# Altium schematic symbol library Connector.SchLib: 263 symbols (part 2 of 2)
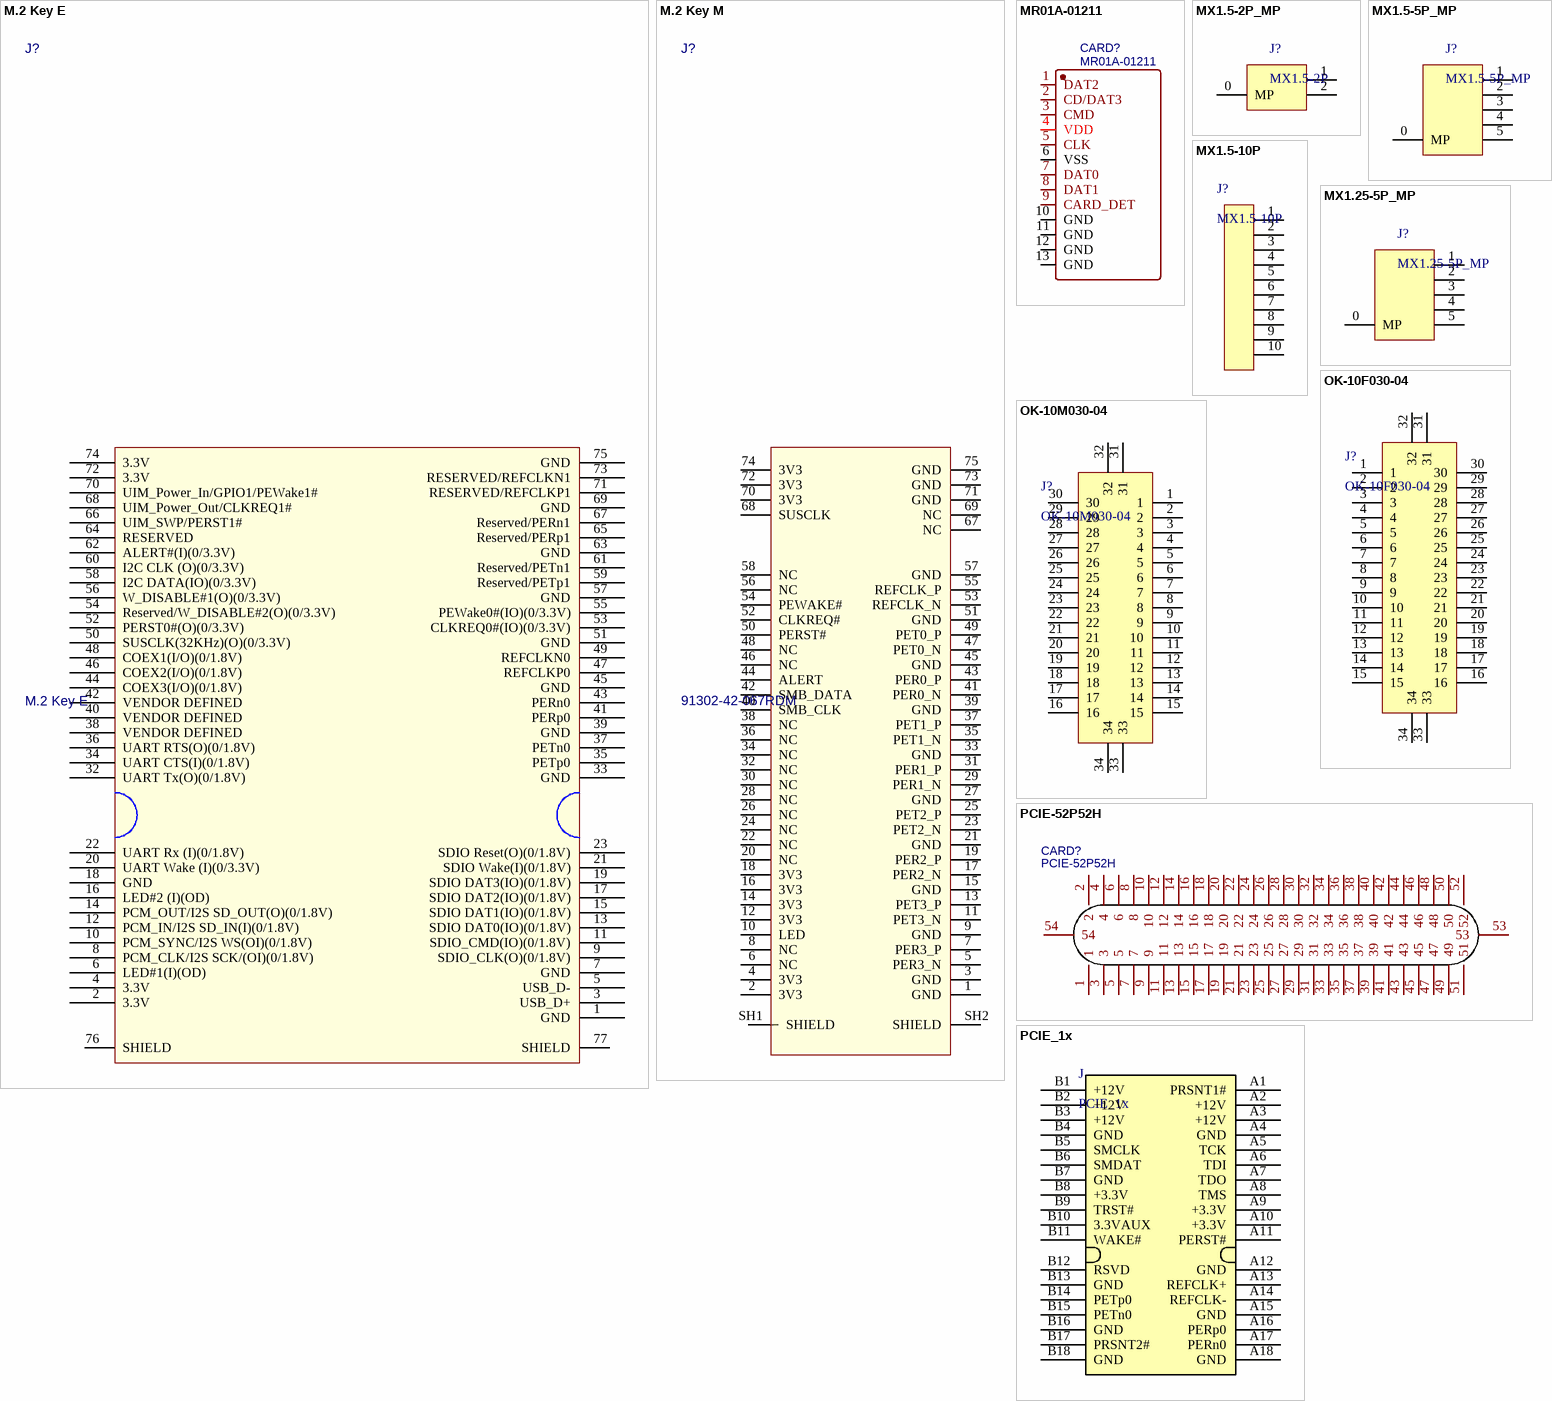
[diagram p14: symbols M.2 Key E to PCIE_1x]

## MR01A-01211
designator CARD?
自弹式 MicroSD卡(TF卡) 卡座; BOM_Manufacturer: ATOM(爱特姆); Contributor: LCSC; BOM_Supplier: LCSC; BOM_Supplier Part: C479742; BOM_Manufacturer Part: MR01A-01211; BOM_JLCPCB Part Class: Extended Part; spicePre: C; spiceSymbolName: MR01A-01211
footprint TF-SMD_MR01A-01211
pins: 1 DAT2, 2 CD/DAT3, 3 CMD, 4 VDD, 5 CLK, 6 VSS, 7 DAT0, 8 DAT1, 9 CARD_DET, 10 GND, 11 GND, 12 GND, 13 GND

## MX1.5-2P_MP
designator J?, comment MX1.5-2P
1.5mm间距，立式表贴线对板接插件
footprint MX1.5mm-2P-MT
pins: 0 MP, 1, 2

## MX1.5-5P_MP
designator J?
1.5mm间距，立式表贴线对板接插件
footprint MX1.5mm-5P-MT
pins: 0 MP, 1, 2, 3, 4, 5

## MX1.5-10P
designator J?
1.5mm间距，立式表贴线对板接插件
footprint Molex_W2B_10P_P1.5mm
pins: 1, 2, 3, 4, 5, 6, 7, 8, 9, 10

## MX1.25-5P_MP
designator J?
1.25mm间距，立式表贴线对板接插件
footprint M1250RS-05P
footprint M1250VS-05P
pins: 0 MP, 1, 2, 3, 4, 5

## OK-10F030-04
designator J?
footprint CONN-SMD_30P-P0.40_OK-10F030-04-A
pins: 1, 2, 3, 4, 5, 6, 7, 8, 9, 10, 11, 12, 13, 14, 15, 16, 17, 18, 19, 20, 21, 22, 23, 24, 25, 26, 27, 28, 29, 30, 31, 32, 33, 34

## OK-10M030-04
designator J?
footprint CONN-SMD_30P-P0.40_OK-10M030-04
pins: 1, 2, 3, 4, 5, 6, 7, 8, 9, 10, 11, 12, 13, 14, 15, 16, 17, 18, 19, 20, 21, 22, 23, 24, 25, 26, 27, 28, 29, 30, 31, 32, 33, 34

## PCIE-52P52H
designator CARD?
BOM_Manufacturer: XUNPU; Contributor: LCSC; BOM_Supplier: LCSC; BOM_Supplier Part: C266899; BOM_Manufacturer Part: PCIE-52P52H; BOM_JLCPCB Part Class: Extended Part; spicePre: C; spiceSymbolName: PCIE-52P52H
footprint CONN-SMD_PCIE-52P52H
pins: 1, 2, 3, 4, 5, 6, 7, 8, 9, 10, 11, 12, 13, 14, 15, 16, 17, 18, 19, 20, 21, 22, 23, 24, 25, 26, 27, 28, 29, 30, 31, 32, 33, 34, 35, 36, 37, 38, 39, 40, 41, 42, 43, 44, 45, 46, 47, 48, 49, 50, 51, 52, 53, 54

## PCIE_1x
designator J  (no BOM)
PCIE 1x PCB封装
pins: A1 PRSNT1#, A2 +12V, A3 +12V, A4 GND, A5 TCK, A6 TDI, A7 TDO, A8 TMS, A9 +3.3V, A10 +3.3V, A11 PERST#, A12 GND, A13 REFCLK+, A14 REFCLK-, A15 GND, A16 PERp0, A17 PERn0, A18 GND, B1 +12V, B2 +12V, B3 +12V, B4 GND, B5 SMCLK, B6 SMDAT, B7 GND, B8 +3.3V, B9 TRST#, B10 3.3VAUX, B11 WAKE#, B12 RSVD, B13 GND, B14 PETp0, B15 PETn0, B16 GND, B17 PRSNT2#, B18 GND

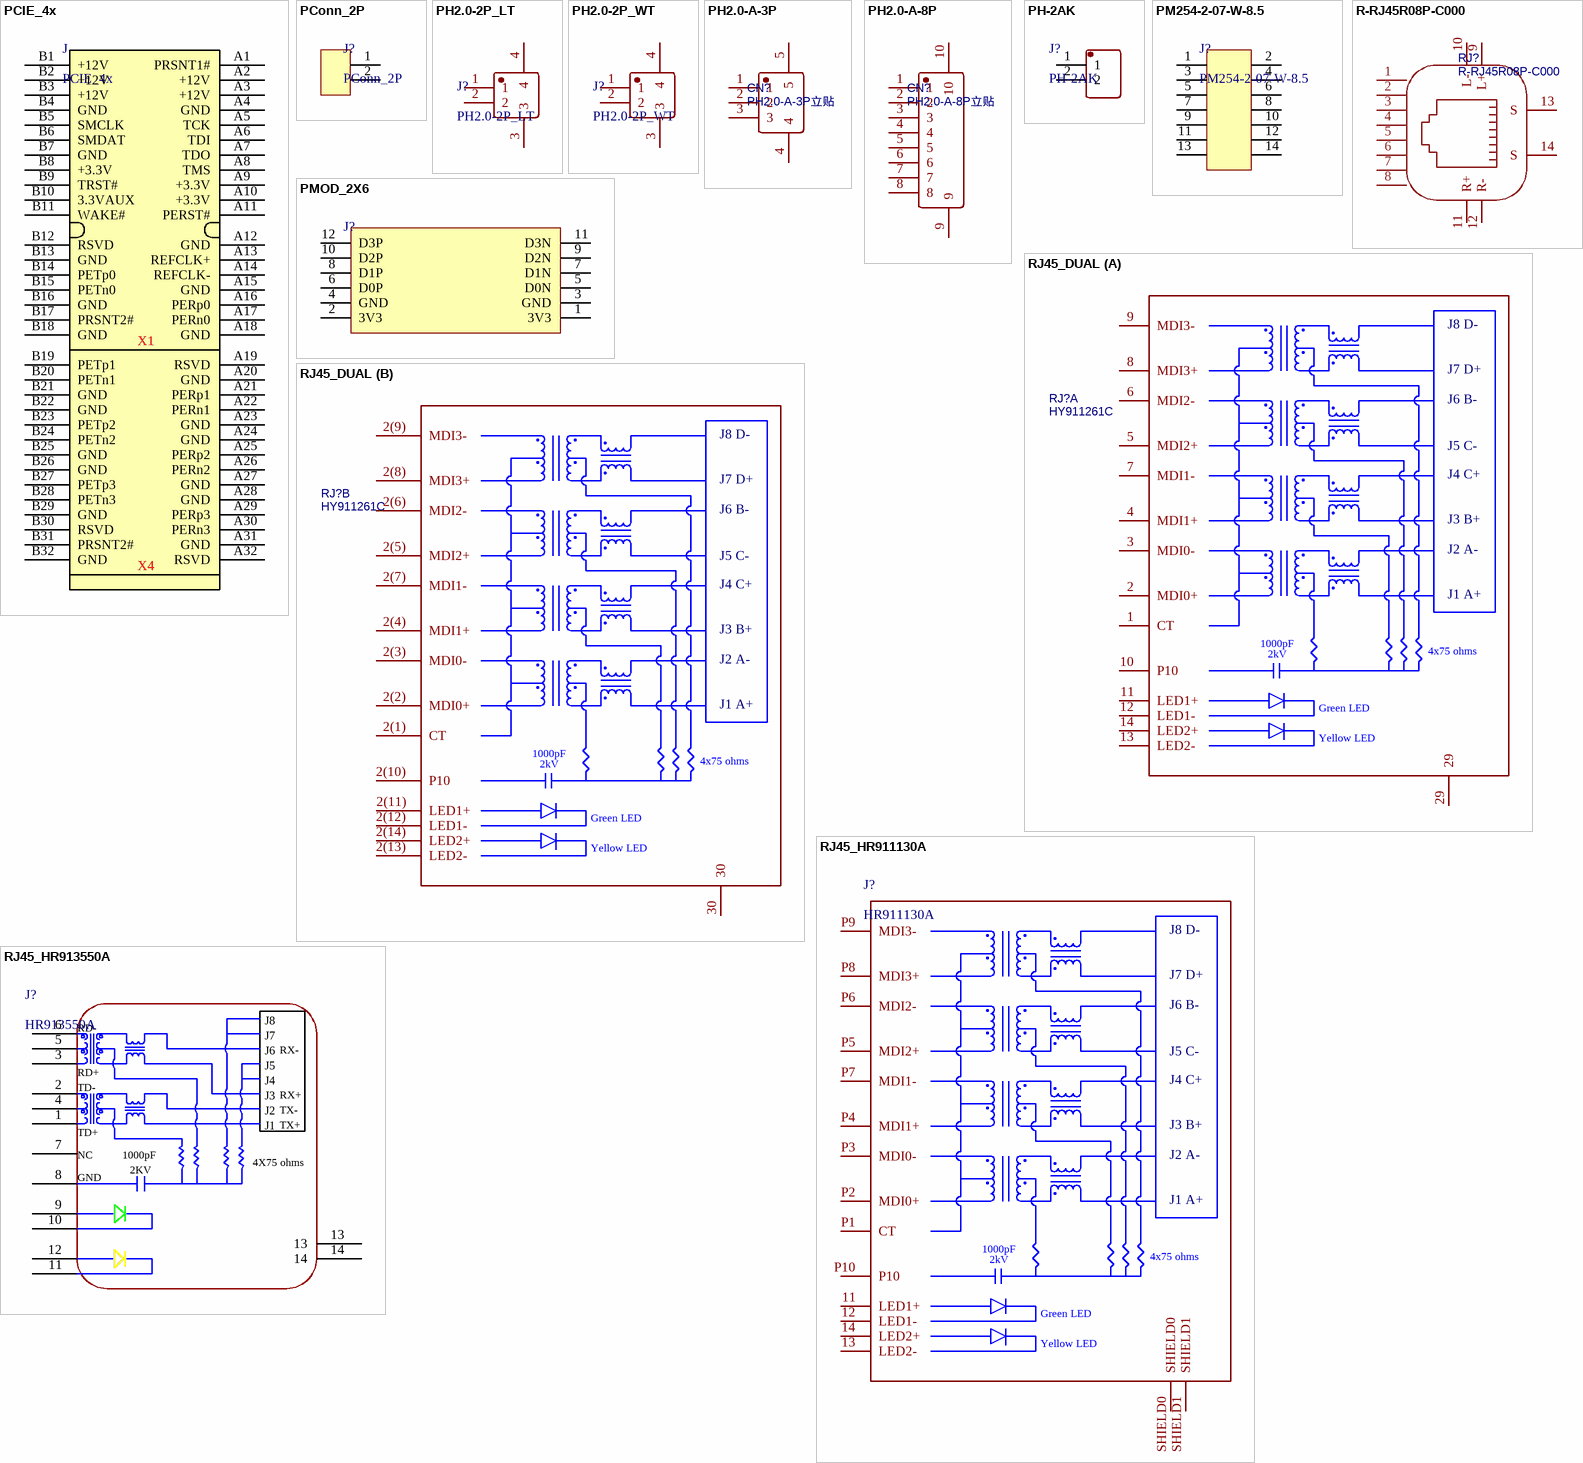
[diagram p10: symbols PCIE_4x to RJ45_HR913550A]

## PCIE_4x
designator J  (no BOM)
PCIE 4x PCB封装
pins: A1 PRSNT1#, A2 +12V, A3 +12V, A4 GND, A5 TCK, A6 TDI, A7 TDO, A8 TMS, A9 +3.3V, A10 +3.3V, A11 PERST#, A12 GND, A13 REFCLK+, A14 REFCLK-, A15 GND, A16 PERp0, A17 PERn0, A18 GND, A19 RSVD, A20 GND, A21 PERp1, A22 PERn1, A23 GND, A24 GND, A25 PERp2, A26 PERn2, A27 GND, A28 GND, A29 PERp3, A30 PERn3, A31 GND, A32 RSVD, B1 +12V, B2 +12V, B3 +12V, B4 GND, B5 SMCLK, B6 SMDAT, B7 GND, B8 +3.3V, B9 TRST#, B10 3.3VAUX, B11 WAKE#, B12 RSVD, B13 GND, B14 PETp0, B15 PETn0, B16 GND, B17 PRSNT2#, B18 GND, B19 PETp1, B20 PETn1, B21 GND, B22 GND, B23 PETp2, B24 PETn2, B25 GND, B26 GND, B27 PETp3, B28 PETn3, B29 GND, B30 RSVD, B31 PRSNT2#, B32 GND
text: X1; X4

## PConn_2P
designator J?
footprint CONN-TH_2P_8mm_H
footprint CONN-TH_2P_5.08mm_H
pins: 1, 2

## PH2.0-2P_LT
designator J?
PH2.0 2P 立贴
footprint PH2.0-2P_LT
pins: 1, 2, 3, 4

## PH2.0-2P_WT
designator J?
PH2.0 2P 卧贴
footprint PH2.0-2P-WT
pins: 1, 2, 3, 4

## PH2.0-A-3P
designator CN?, comment PH2.0-A-3P立贴
BOM_Manufacturer: BOOMELE(博穆精密); BOM_Manufacturer Part: PH-8P立贴; Contributor: LCSC; BOM_Supplier: LCSC; BOM_Supplier Part: C64660; BOM_JLCPCB Part Class: Extended Part; spicePre: C; spiceSymbolName: PH-8P立贴
footprint CONN-SMD_3P-P2.00_HDGC_HDGC2001WV-S-3P
pins: 1, 2, 3, 4, 5

## PH2.0-A-8P
designator CN?, comment PH2.0-A-8P立贴
BOM_Manufacturer: BOOMELE(博穆精密); BOM_Manufacturer Part: PH-8P立贴; Contributor: LCSC; BOM_Supplier: LCSC; BOM_Supplier Part: C64660; BOM_JLCPCB Part Class: Extended Part; spicePre: C; spiceSymbolName: PH-8P立贴
footprint CONN-SMD_P2.00_PH-8P
pins: 1, 2, 3, 4, 5, 6, 7, 8, 9, 10

## PH-2AK
designator J?
2.00mm 线对板连接器
footprint CONN-TH_PH-2A
pins: 1, 2

## PM254-2-07-W-8.5
designator J?
排母 2x7 弯插 2.54mm
footprint HDR-TH_14P-P2.54-H-F-R2-C7-W8.5
pins: 1, 2, 3, 4, 5, 6, 7, 8, 9, 10, 11, 12, 13, 14

## PMOD_2X6
designator J?, comment PM254-2-06-W-8.5  (value not drawn)
footprint HDR-TH_12P-P2.54-H-F-R2-C6-W8.5
pins: 1 3V3, 2 3V3, 3 GND, 4 GND, 5 D0N, 6 D0P, 7 D1N, 8 D1P, 9 D2N, 10 D2P, 11 D3N, 12 D3P

## R-RJ45R08P-C000
designator RJ?
BOM_Manufacturer: Shenzhen Cankemeng; Contributor: LCSC; BOM_Supplier: LCSC; BOM_Supplier Part: C386757; BOM_Manufacturer Part: R-RJ45R08P-C000; BOM_JLCPCB Part Class: Extended Part; spicePre: R; spiceSymbolName: R-RJ45R08P-C000
footprint RJ45-TH_R-RJ45R08P-C000
pins: 1, 2, 3, 4, 5, 6, 7, 8, 9 L+, 10 L-, 11 R+, 12 R-, 13 S, 14 S

## RJ45_DUAL
designator RJ?, comment HY911261C
BOM_Manufacturer: HANRUN; BOM_Supplier: LCSC; BOM_Manufacturer Part: HY911261C; BOM_Supplier Part: C55686; BOM_JLCPCB Part Class: Extended Part; spicePre: R; spiceSymbolName: HY911261C
footprint RJ45-TH_28P-P2.54-S2.54_L33.2-W21.4_HY911261C
part A pins: 1 CT, 2 MDI0+, 3 MDI0-, 4 MDI1+, 5 MDI2+, 6 MDI2-, 7 MDI1-, 8 MDI3+, 9 MDI3-, 10 P10, 11 LED1+, 12 LED1-, 13 LED2-, 14 LED2+, 29
part B pins: 2(1) CT, 2(2) MDI0+, 2(3) MDI0-, 2(4) MDI1+, 2(5) MDI2+, 2(6) MDI2-, 2(7) MDI1-, 2(8) MDI3+, 2(9) MDI3-, 2(10) P10, 2(11) LED1+, 2(12) LED1-, 2(13) LED2-, 2(14) LED2+, 30
part A text: J8 D-; J7 D+; J6 B-; J5 C-; J4 C+; J3 B+; J2 A-; J1 A+; 1000pF; 4x75 ohms; 2kV; Green LED; Yellow LED
part B text: J8 D-; J7 D+; J6 B-; J5 C-; J4 C+; J3 B+; J2 A-; J1 A+; 1000pF; 4x75 ohms; 2kV; Green LED; Yellow LED

## RJ45_HR911130A
designator J?, comment HR911130A
footprint RJ45-TH_HR911130A
pins: 11 LED1+, 12 LED1-, 13 LED2-, 14 LED2+, P1 CT, P2 MDI0+, P3 MDI0-, P4 MDI1+, P5 MDI2+, P6 MDI2-, P7 MDI1-, P8 MDI3+, P9 MDI3-, P10, SHIELD0, SHIELD1
text: J8 D-; J7 D+; J6 B-; J5 C-; J4 C+; J3 B+; J2 A-; J1 A+; 1000pF; 4x75 ohms; 2kV; Green LED; Yellow LED

## RJ45_HR913550A
designator J?, comment HR913550A
footprint RJ45-TH_HR913550A
pins: 1, 2, 3, 4, 5, 6, 7 NC, 8 GND, 9, 10, 11, 12, 13, 14
text: J8; RD-; J7; J6; RX-; J5; RD+; J4; TD-; J3; RX+; J2; TX-; J1; TX+; TD+; 1000pF; 4X75 ohms; 2KV

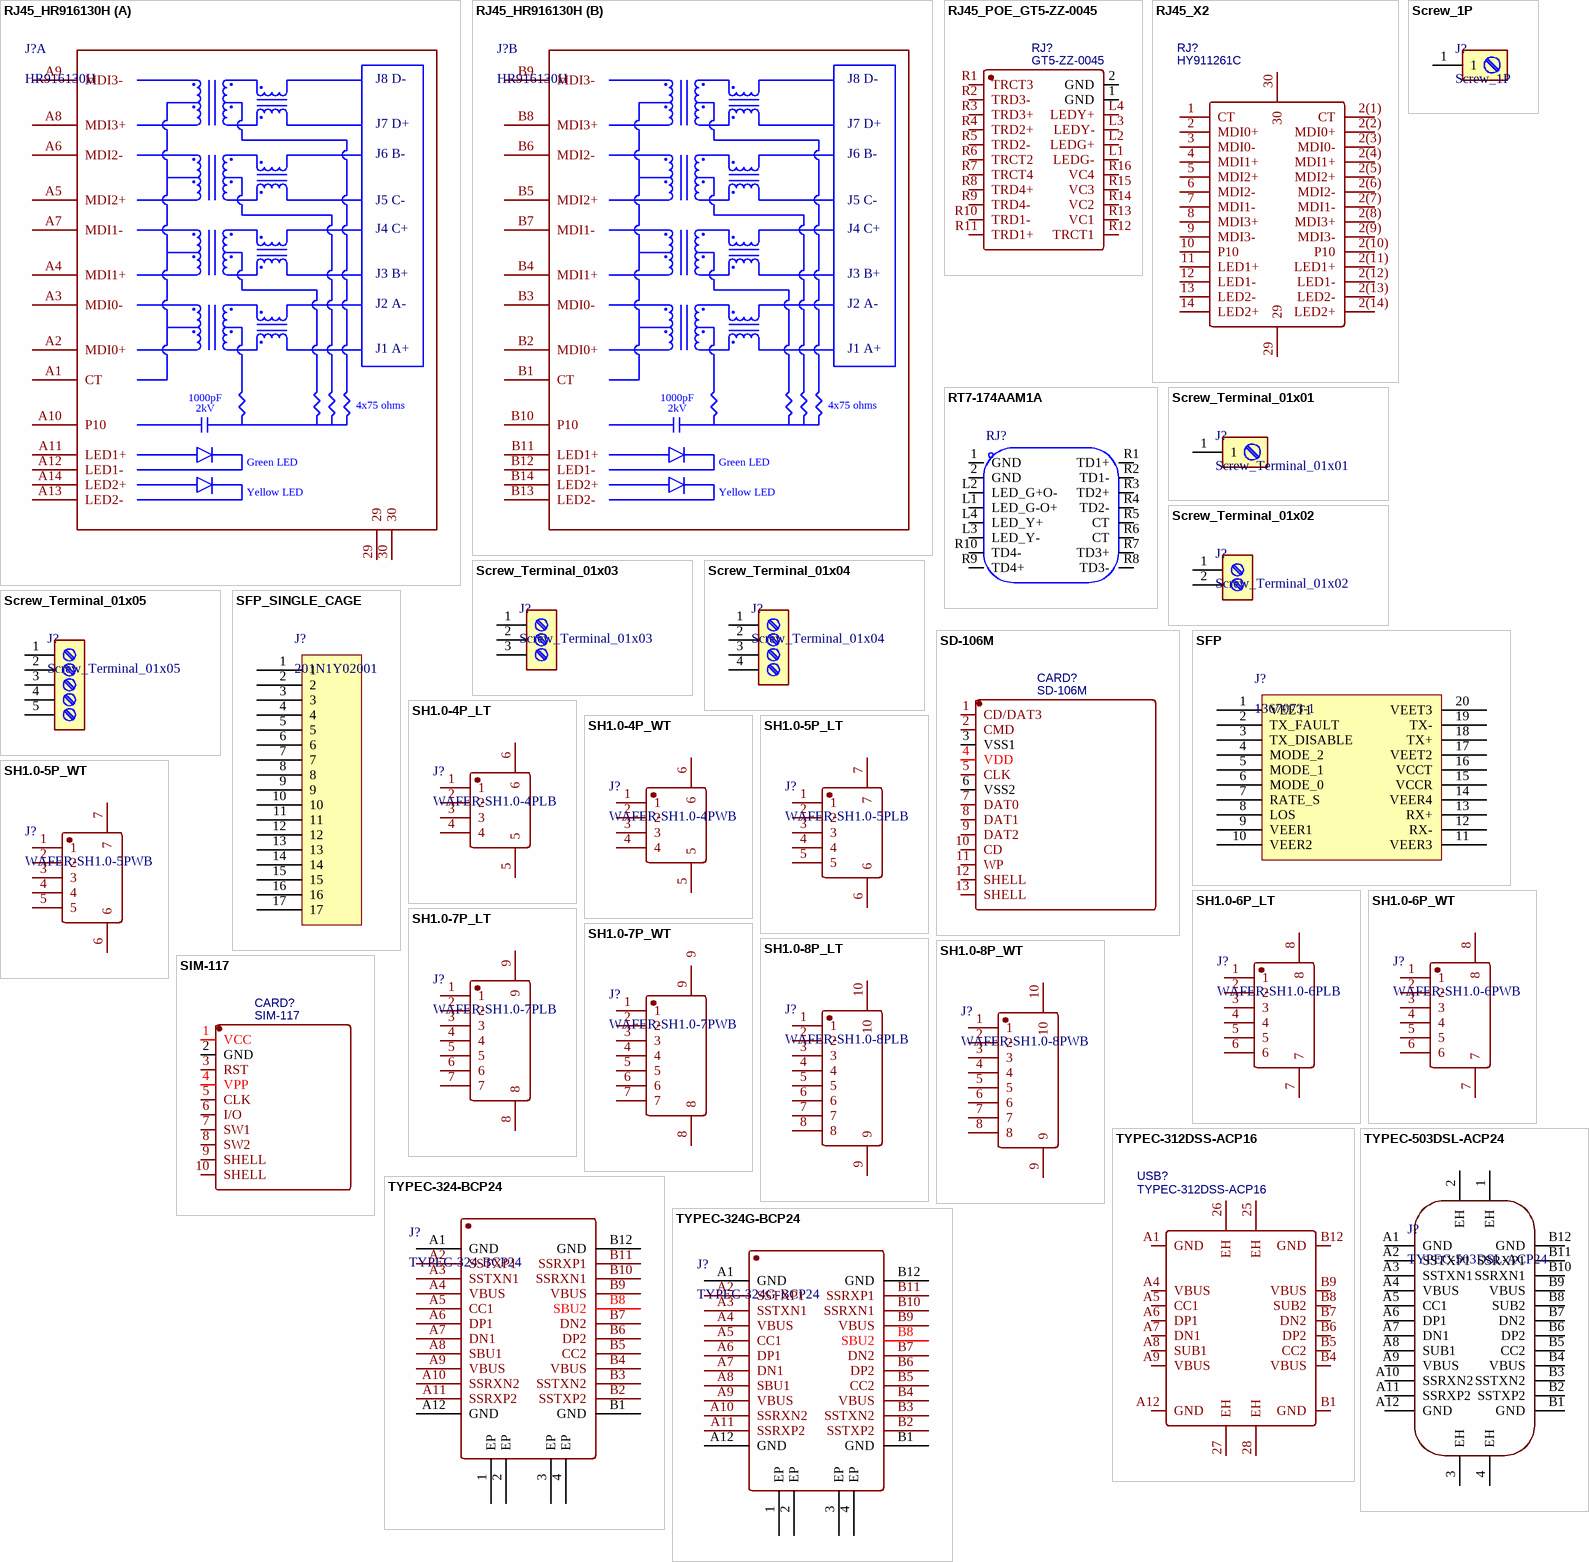
[diagram p11: symbols RJ45_HR916130H to TYPEC-503DSL-ACP24]

## RJ45_HR916130H
designator J?, comment HR916130H
footprint RJ45-TH_HR916130H
part A pins: 29, 30, A1 CT, A2 MDI0+, A3 MDI0-, A4 MDI1+, A5 MDI2+, A6 MDI2-, A7 MDI1-, A8 MDI3+, A9 MDI3-, A10 P10, A11 LED1+, A12 LED1-, A13 LED2-, A14 LED2+
part B pins: B1 CT, B2 MDI0+, B3 MDI0-, B4 MDI1+, B5 MDI2+, B6 MDI2-, B7 MDI1-, B8 MDI3+, B9 MDI3-, B10 P10, B11 LED1+, B12 LED1-, B13 LED2-, B14 LED2+
part A text: J8 D-; J7 D+; J6 B-; J5 C-; J4 C+; J3 B+; J2 A-; J1 A+; 1000pF; 4x75 ohms; 2kV; Green LED; Yellow LED
part B text: J8 D-; J7 D+; J6 B-; J5 C-; J4 C+; J3 B+; J2 A-; J1 A+; 1000pF; 4x75 ohms; 2kV; Green LED; Yellow LED

## RJ45_POE_GT5-ZZ-0045
designator RJ?, comment GT5-ZZ-0045
10G 加POE60W 左黄右绿 开口向上; BOM_Manufacturer: UDE Corp; Contributor: LCSC; BOM_Supplier: LCSC; BOM_Supplier Part: C711509; BOM_Manufacturer Part: GT5-ZZ-0045; BOM_JLCPCB Part Class: Extended Part; spicePre: R; spiceSymbolName: GT5-ZZ-0045
footprint RJ45-TH_GT5-ZZ-0045
pins: 1 GND, 2 GND, L1 LEDG-, L2 LEDG+, L3 LEDY-, L4 LEDY+, R1 TRCT3, R2 TRD3-, R3 TRD3+, R4 TRD2+, R5 TRD2-, R6 TRCT2, R7 TRCT4, R8 TRD4+, R9 TRD4-, R10 TRD1-, R11 TRD1+, R12 TRCT1, R13 VC1, R14 VC2, R15 VC3, R16 VC4

## RJ45_X2
designator RJ?, comment HY911261C
BOM_Manufacturer: HANRUN; BOM_Supplier: LCSC; BOM_Manufacturer Part: HY911261C; BOM_Supplier Part: C55686; BOM_JLCPCB Part Class: Extended Part; spicePre: R; spiceSymbolName: HY911261C
footprint RJ45-TH_28P-P2.54-S2.54_L33.2-W21.4_HY911261C
pins: 1 CT, 2 MDI0+, 2(1) CT, 2(2) MDI0+, 2(3) MDI0-, 2(4) MDI1+, 2(5) MDI2+, 2(6) MDI2-, 2(7) MDI1-, 2(8) MDI3+, 2(9) MDI3-, 2(10) P10, 2(11) LED1+, 2(12) LED1-, 2(13) LED2-, 2(14) LED2+, 3 MDI0-, 4 MDI1+, 5 MDI2+, 6 MDI2-, 7 MDI1-, 8 MDI3+, 9 MDI3-, 10 P10, 11 LED1+, 12 LED1-, 13 LED2-, 14 LED2+, 29, 30

## RT7-174AAM1A
designator RJ?  (value not drawn)
RJ45 千兆带灯 左黄右绿橙 开口向上; Manufacturer: UDE(涌德电子); Add into BOM: yes; Connector Type: RJ插座; Number of Ports: 1; Mounting Sytle: 弯插; Shielding: 有; Symbol: RT7-174AAM1A; Device: RT7-174AAM1A; LCSC Part Name: 千兆带灯 左黄右绿橙 开口向上; Supplier Part: C711505; Manufacturer Part: RT7-174AAM1A; Supplier Footprint: 插件; JLCPCB Part Class: Extended Part; Datasheet: https://atta.szlcsc.com/upload/public/pdf/source/20200728/C711505_D0535B5F0E26438CCA7C395B6CC1A3F6.pdf; Supplier: LCSC; Convert to PCB: yes; USOC Codes: RJ45; Ratings: -; LED: 有; Operating Temperature Range: 0~+70
footprint RJ45-TH_RT7-174AAM1A
3D model RJ45-TH_RT7-174AAM1A
pins: 1 GND, 2 GND, L1 LED_G-O+, L2 LED_G+O-, L3 LED_Y-, L4 LED_Y+, R1 TD1+, R2 TD1-, R3 TD2+, R4 TD2-, R5 CT, R6 CT, R7 TD3+, R8 TD3-, R9 TD4+, R10 TD4-

## Screw_1P
designator J?
footprint CONN-TH_1P_Screw5x10mm
pins: 1

## Screw_Terminal_01x01
designator J?
Generic screw terminal, single row
pins: 1

## Screw_Terminal_01x02
designator J?
Generic screw terminal, single row
footprint MKDSN_1x02_P5.08mm
footprint MKDS5_1x02_P9.52mm
pins: 1, 2

## Screw_Terminal_01x03
designator J?
Generic screw terminal, single row
footprint MKDSN_1x03_P5.08mm
pins: 1, 2, 3

## Screw_Terminal_01x04
designator J?
Generic screw terminal, single row
footprint MKDSN_1x04_P5.08mm
pins: 1, 2, 3, 4

## Screw_Terminal_01x05
designator J?
Generic screw terminal, single row
pins: 1, 2, 3, 4, 5

## SD-106M
designator CARD?
BOM_Manufacturer: XUNPU; Contributor: LCSC; BOM_Supplier: LCSC; BOM_Supplier Part: C266603; BOM_Manufacturer Part: SD-106M; BOM_JLCPCB Part Class: Extended Part; spicePre: C; spiceSymbolName: SD-106M
footprint SD-SMD_SD-106M
pins: 1 CD/DAT3, 2 CMD, 3 VSS1, 4 VDD, 5 CLK, 6 VSS2, 7 DAT0, 8 DAT1, 9 DAT2, 10 CD, 11 WP, 12 SHELL, 13 SHELL

## SFP
designator J?, comment 1367073-1
footprint SFP-SMD_1367073-1
pins: 1 VEET1, 2 TX_FAULT, 3 TX_DISABLE, 4 MODE_2, 5 MODE_1, 6 MODE_0, 7 RATE_S, 8 LOS, 9 VEER1, 10 VEER2, 11 VEER3, 12 RX-, 13 RX+, 14 VEER4, 15 VCCR, 16 VCCT, 17 VEET2, 18 TX+, 19 TX-, 20 VEET3

## SFP_SINGLE_CAGE
designator J?, comment 201N1Y02001
SFP 单通道外壳
footprint SFP-TH_201N1Y02001
pins: 1, 2, 3, 4, 5, 6, 7, 8, 9, 10, 11, 12, 13, 14, 15, 16, 17

## SH1.0-4P_LT
designator J?, comment WAFER-SH1.0-4PLB
SH1.0 立贴 4P
footprint SH1.0_4P_LT
pins: 1, 2, 3, 4, 5, 6

## SH1.0-4P_WT
designator J?, comment WAFER-SH1.0-4PWB
SH1.0 卧贴 4P
footprint SH1.0_4P_WT
pins: 1, 2, 3, 4, 5, 6

## SH1.0-5P_LT
designator J?, comment WAFER-SH1.0-5PLB
SH1.0 立贴 5P
footprint SH1.0_5P_LT
pins: 1, 2, 3, 4, 5, 6, 7

## SH1.0-5P_WT
designator J?, comment WAFER-SH1.0-5PWB
SH1.0 卧贴 5P
footprint SH1.0_5P_WT
pins: 1, 2, 3, 4, 5, 6, 7

## SH1.0-6P_LT
designator J?, comment WAFER-SH1.0-6PLB
SH1.0 立贴 6P
footprint SH1.0_6P_LT
pins: 1, 2, 3, 4, 5, 6, 7, 8

## SH1.0-6P_WT
designator J?, comment WAFER-SH1.0-6PWB
SH1.0 卧贴 6P
footprint SH1.0_6P_WT
pins: 1, 2, 3, 4, 5, 6, 7, 8

## SH1.0-7P_LT
designator J?, comment WAFER-SH1.0-7PLB
SH1.0 立贴 7P
footprint SH1.0_7P_LT
pins: 1, 2, 3, 4, 5, 6, 7, 8, 9

## SH1.0-7P_WT
designator J?, comment WAFER-SH1.0-7PWB
SH1.0 卧贴 7P
footprint SH1.0_7P_WT
pins: 1, 2, 3, 4, 5, 6, 7, 8, 9

## SH1.0-8P_LT
designator J?, comment WAFER-SH1.0-8PLB
SH1.0 立贴 8P
footprint SH1.0_8P_LT
pins: 1, 2, 3, 4, 5, 6, 7, 8, 9, 10

## SH1.0-8P_WT
designator J?, comment WAFER-SH1.0-8PWB
SH1.0 卧贴 8P
footprint SH1.0_8P_WT
pins: 1, 2, 3, 4, 5, 6, 7, 8, 9, 10

## SIM-117
designator CARD?
BOM_Manufacturer: XUNPU; Contributor: LCSC; BOM_Supplier: LCSC; BOM_Supplier Part: C266630; BOM_Manufacturer Part: SIM-117; BOM_JLCPCB Part Class: Extended Part; spicePre: C; spiceSymbolName: SIM-117
footprint SIM-SMD_SIM-117
pins: 1 VCC, 2 GND, 3 RST, 4 VPP, 5 CLK, 6 I/O, 7 SW1, 8 SW2, 9 SHELL, 10 SHELL

## TYPEC-312DSS-ACP16
designator USB?
BOM_Manufacturer: XUNPU(讯普); Contributor: LCSC; BOM_Supplier: LCSC; BOM_Supplier Part: C2909601; BOM_Manufacturer Part: TYPEC-312DSS-ACP16; spicePre: U; spiceSymbolName: TYPEC-312DSS-ACP16
footprint USB-C-SMD_XUNPU_TYPEC-312DSS-ACP16
pins: 25 EH, 26 EH, 27 EH, 28 EH, A1 GND, A4 VBUS, A5 CC1, A6 DP1, A7 DN1, A8 SUB1, A9 VBUS, A12 GND, B1 GND, B4 VBUS, B5 CC2, B6 DP2, B7 DN2, B8 SUB2, B9 VBUS, B12 GND

## TYPEC-324-BCP24
designator J?
USB3.1 Type-C
footprint USB-C-SMD_TYPEC-324-BCP24
pins: 1 EP, 2 EP, 3 EP, 4 EP, A1 GND, A2 SSTXP1, A3 SSTXN1, A4 VBUS, A5 CC1, A6 DP1, A7 DN1, A8 SBU1, A9 VBUS, A10 SSRXN2, A11 SSRXP2, A12 GND, B1 GND, B2 SSTXP2, B3 SSTXN2, B4 VBUS, B5 CC2, B6 DP2, B7 DN2, B8 SBU2, B9 VBUS, B10 SSRXN1, B11 SSRXP1, B12 GND

## TYPEC-324G-BCP24
designator J?
USB3.1 Type-C
footprint USB-C-SMD_TYPEC-324G-BCP24
pins: 1 EP, 2 EP, 3 EP, 4 EP, A1 GND, A2 SSTXP1, A3 SSTXN1, A4 VBUS, A5 CC1, A6 DP1, A7 DN1, A8 SBU1, A9 VBUS, A10 SSRXN2, A11 SSRXP2, A12 GND, B1 GND, B2 SSTXP2, B3 SSTXN2, B4 VBUS, B5 CC2, B6 DP2, B7 DN2, B8 SBU2, B9 VBUS, B10 SSRXN1, B11 SSRXP1, B12 GND

## TYPEC-503DSL-ACP24
designator J?
USB3.1 Type-C
footprint USB-C-SMD_TYPEC-503DSL-ACP24
pins: 1 EH, 2 EH, 3 EH, 4 EH, A1 GND, A2 SSTXP1, A3 SSTXN1, A4 VBUS, A5 CC1, A6 DP1, A7 DN1, A8 SUB1, A9 VBUS, A10 SSRXN2, A11 SSRXP2, A12 GND, B1 GND, B2 SSTXP2, B3 SSTXN2, B4 VBUS, B5 CC2, B6 DP2, B7 DN2, B8 SUB2, B9 VBUS, B10 SSRXN1, B11 SSRXP1, B12 GND

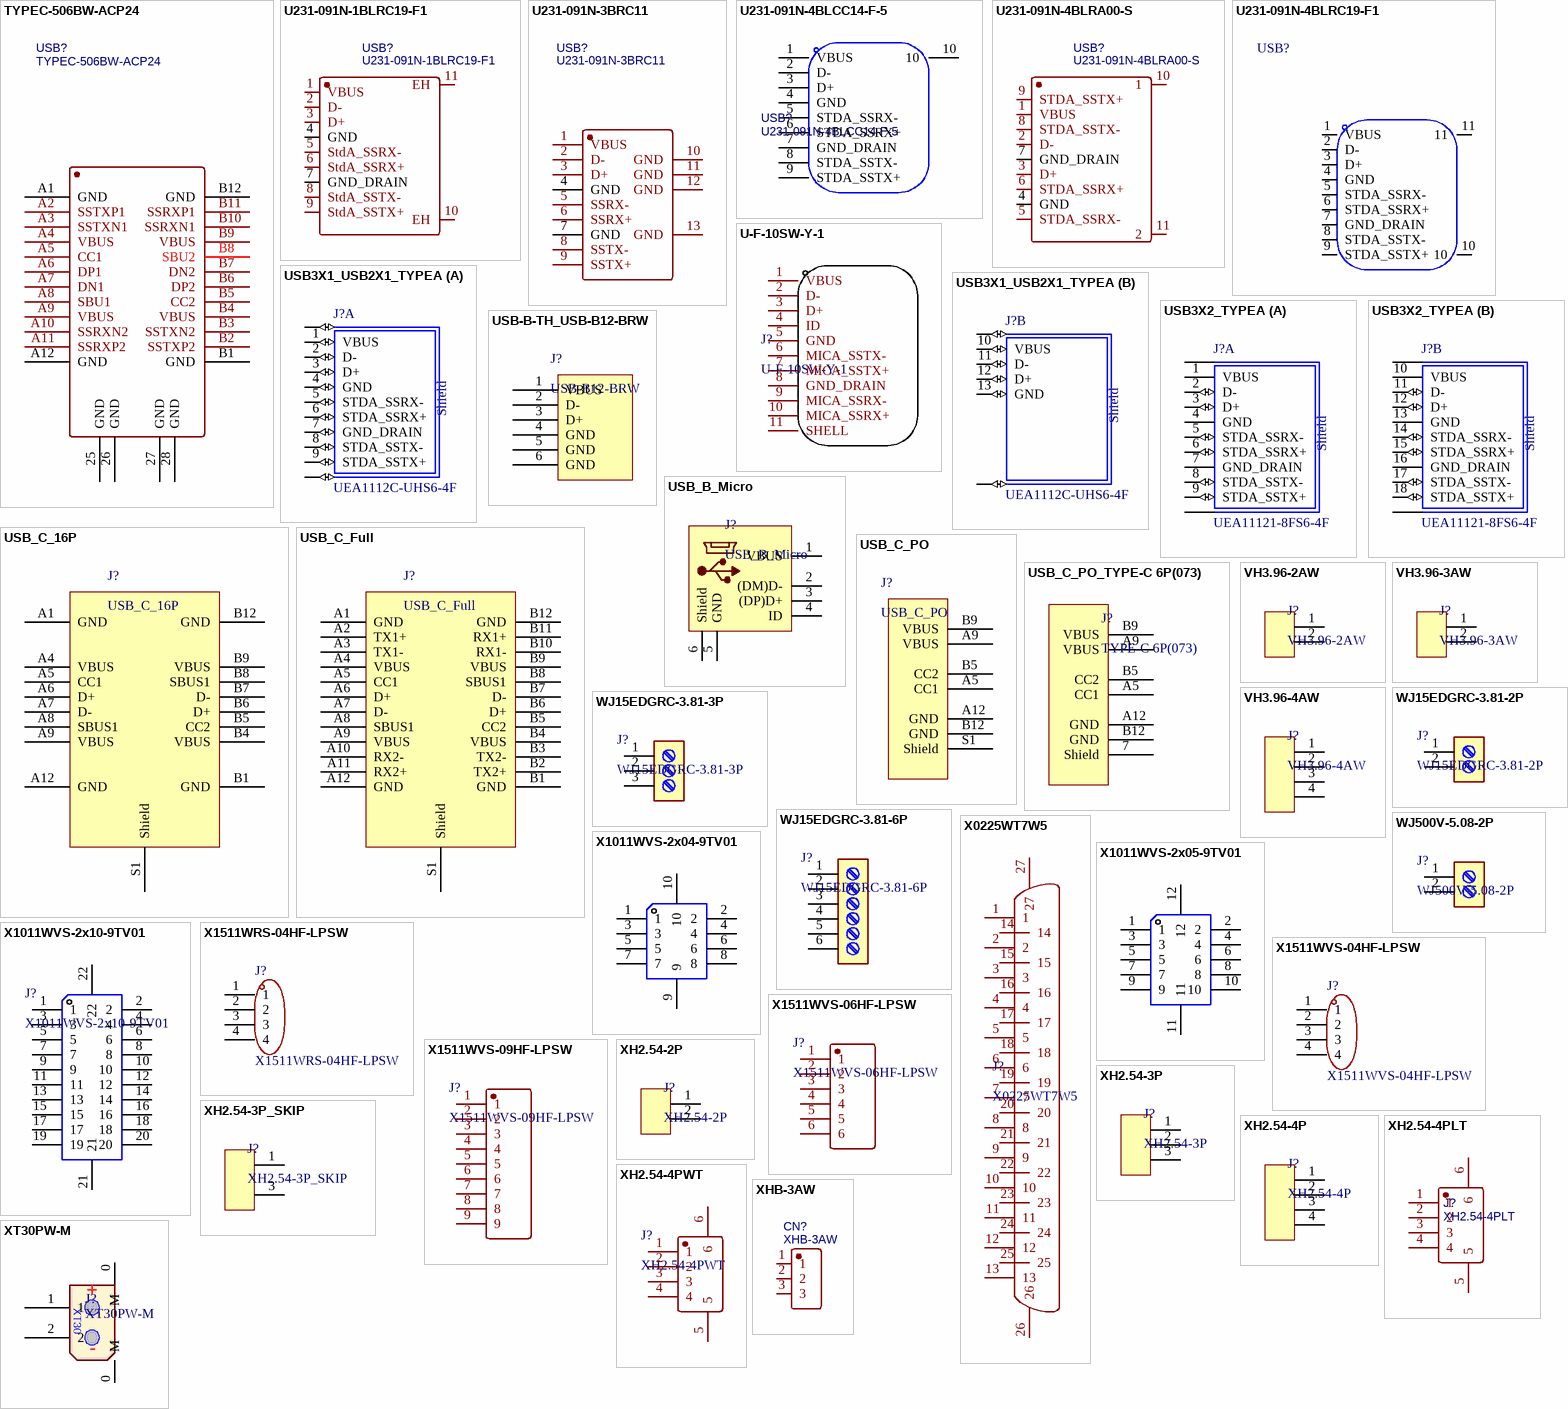
[diagram p12: symbols TYPEC-506BW-ACP24 to XT30PW-M]

## TYPEC-506BW-ACP24
designator USB?
USB3.1 Type-C; BOM_Manufacturer: XUNPU(讯普); Contributor: LCSC; BOM_Supplier: LCSC; BOM_Supplier Part: C2895019; BOM_Manufacturer Part: TYPEC-506BW-ACP24; BOM_JLCPCB Part Class: Extended Part; spicePre: U; spiceSymbolName: TYPEC-506BW-ACP24
footprint USB-C-SMD_TYPEC-506BW-ACP24
pins: 25 GND, 26 GND, 27 GND, 28 GND, A1 GND, A2 SSTXP1, A3 SSTXN1, A4 VBUS, A5 CC1, A6 DP1, A7 DN1, A8 SBU1, A9 VBUS, A10 SSRXN2, A11 SSRXP2, A12 GND, B1 GND, B2 SSTXP2, B3 SSTXN2, B4 VBUS, B5 CC2, B6 DP2, B7 DN2, B8 SBU2, B9 VBUS, B10 SSRXN1, B11 SSRXP1, B12 GND

## U231-091N-1BLRC19-F1
designator USB?
BOM_Manufacturer: XKB Connectivity(中国星坤); Contributor: LCSC; BOM_Supplier: LCSC; BOM_Supplier Part: C2880601; BOM_Manufacturer Part: U231-091N-1BLRC19-F1; BOM_JLCPCB Part Class: Extended Part; spicePre: U; spiceSymbolName: U231-091N-1BLRC19-F1
footprint USB-3.0-TH_XKB_U231-091N-1BLRC19-F1
pins: 1 VBUS, 2 D-, 3 D+, 4 GND, 5 StdA_SSRX-, 6 StdA_SSRX+, 7 GND_DRAIN, 8 StdA_SSTX-, 9 StdA_SSTX+, 10 EH, 11 EH

## U231-091N-3BRC11
designator USB?
BOM_Manufacturer: XKB Connectivity; BOM_Manufacturer Part: U231-091N-3BRC10-5; Contributor: LCSC; BOM_Supplier: LCSC; BOM_Supplier Part: C692545; spicePre: U; spiceSymbolName: U231-091N-3BRC10-5
footprint USB-C-TH_U231-091N-3BRC11
pins: 1 VBUS, 2 D-, 3 D+, 4 GND, 5 SSRX-, 6 SSRX+, 7 GND, 8 SSTX-, 9 SSTX+, 10 GND, 11 GND, 12 GND, 13 GND

## U231-091N-4BLCC14-F-5
designator USB?
USB3.0 侧插; BOM_Manufacturer: HOOYA(香港皓宇); BOM_Manufacturer Part: USB-303L-L-SU; Contributor: lcsc; BOM_Supplier: LCSC; BOM_Supplier Part: C2939532; link: https://atta.szlcsc.com/upload/public/pdf/source/20220401/4DFECE0CFC6CE01AD941A9A056F4BDE4.pdf; spicePre: U; spiceSymbolName: USB-303L-L-SU
footprint USB3.0-A-TH_U231-091N-4BLCC14-S-5
pins: 1 VBUS, 2 D-, 3 D+, 4 GND, 5 STDA_SSRX-, 6 STDA_SSRX+, 7 GND_DRAIN, 8 STDA_SSTX-, 9 STDA_SSTX+, 10

## U231-091N-4BLRA00-S
designator USB?
BOM_Manufacturer: XKB Connectivity(中国星坤); Contributor: LCSC; BOM_Supplier: LCSC; BOM_Supplier Part: C2880618; BOM_Manufacturer Part: U231-091N-4BLRA00-S; BOM_JLCPCB Part Class: Extended Part; spicePre: U; spiceSymbolName: U231-091N-4BLRA00-S
footprint USB-SMD_U231-091N-4BLRA00-S
pins: 1 VBUS, 2 D-, 3 D+, 4 GND, 5 STDA_SSRX-, 6 STDA_SSRX+, 7 GND_DRAIN, 8 STDA_SSTX-, 9 STDA_SSTX+, 10 1, 11 2

## U231-091N-4BLRC19-F1
designator USB?
Manufacturer: XKB Connectivity(中国星坤); Symbol: U231-091N-4BLRC19-F1; Add into BOM: yes; Connector Type: Type-A; Gender: 母座; Number of Contacts: 9; Number of Ports: 1; Current Rating - Power (Max): 1A; Device: U231-091N-4BLRC19-F1; LCSC Part Name: Type-A 母座; Supplier Part: C397360; Manufacturer Part: U231-091N-4BLRC19-F1; Supplier Footprint: 插件; JLCPCB Part Class: Extended Part; Datasheet: https://atta.szlcsc.com/upload/public/pdf/source/20190612/C397360_7F8AEDED25EA9FAD48446CE4CD877242.pdf; Supplier: LCSC; Convert to PCB: yes; Standard: USB 3.0
footprint USB-A-TH_U231-091N-4BLRC19-F1
3D model USB-A-TH_U231-091N-4BLRC19-F1
pins: 1 VBUS, 2 D-, 3 D+, 4 GND, 5 STDA_SSRX-, 6 STDA_SSRX+, 7 GND_DRAIN, 8 STDA_SSTX-, 9 STDA_SSTX+, 10, 11

## U-F-10SW-Y-1
designator J?
Micro USB 3.0
footprint USB-3.0-SMD_U-F-10SW-Y-1
pins: 1 VBUS, 2 D-, 3 D+, 4 ID, 5 GND, 6 MICA_SSTX-, 7 MICA_SSTX+, 8 GND_DRAIN, 9 MICA_SSRX-, 10 MICA_SSRX+, 11 SHELL

## USB3X1_USB2X1_TYPEA
designator J?, comment UEA1112C-UHS6-4F
footprint USB3_2LAYERS_1U3+1U2_ZHICHA
part A pins: 1 VBUS (io), 2 D- (io), 3 D+ (io), 4 GND (io), 5 STDA_SSRX- (io), 6 STDA_SSRX+ (io), 7 GND_DRAIN (io), 8 STDA_SSTX- (io), 9 STDA_SSTX+ (io), S1 SHIELD (io), S2 SHIELD (io)
part B pins: 10 VBUS (io), 11 D- (io), 12 D+ (io), 13 GND (io), S3 SHIELD (io), S4 SHIELD (io)
part A text: Shield
part B text: Shield

## USB3X2_TYPEA
designator J?, comment UEA11121-8FS6-4F
footprint USB3x2_UEA11121-8FS6-4F
part A pins: 1 VBUS, 2 D- (io), 3 D+ (io), 4 GND, 5 STDA_SSRX- (io), 6 STDA_SSRX+ (io), 7 GND_DRAIN, 8 STDA_SSTX- (io), 9 STDA_SSTX+ (io), S3 SHIELD, S4 SHIELD
part B pins: 10 VBUS, 11 D- (io), 12 D+ (io), 13 GND, 14 STDA_SSRX- (io), 15 STDA_SSRX+ (io), 16 GND_DRAIN, 17 STDA_SSTX- (io), 18 STDA_SSTX+ (io), S1 SHIELD, S2 SHIELD
part A text: Shield
part B text: Shield

## USB-B-TH_USB-B12-BRW
designator J?, comment USB-B12-BRW
USB Type-B  立插
footprint USB-B-TH_USB-B12-BRW
pins: 1 VBUS, 2 D-, 3 D+, 4 GND, 5 GND, 6 GND

## USB_B_Micro
designator J?
USB Micro Type B connector
footprint USB_Micro-B_SMT_With_Column
footprint USB_Micro-B_Vertical_SHOUHAN_180ZB
footprint MICRO-USB-SMD_MICROXNJ
pins: 1 VBUS, 2 (DM)D-, 3 (DP)D+, 4 ID, 5 GND, 6 Shield

## USB_C_16P
designator J?
USB_C_16P USB 2.0
footprint USB_C_Receptacle_XUNPU_TYPEC-304-BCP16
footprint USB_C_XUNPU_TYPEC-303-ACP16
pins: A1 GND, A4 VBUS, A5 CC1, A6 D+, A7 D-, A8 SBUS1, A9 VBUS, A12 GND, B1 GND, B4 VBUS, B5 CC2, B6 D+, B7 D-, B8 SBUS1, B9 VBUS, B12 GND, S1 Shield

## USB_C_Full
designator J?
USB_C_Full 24Pin
pins: A1 GND, A2 TX1+, A3 TX1-, A4 VBUS, A5 CC1, A6 D+, A7 D-, A8 SBUS1, A9 VBUS, A10 RX2-, A11 RX2+, A12 GND, B1 GND, B2 TX2+, B3 TX2-, B4 VBUS, B5 CC2, B6 D+, B7 D-, B8 SBUS1, B9 VBUS, B10 RX1-, B11 RX1+, B12 GND, S1 Shield

## USB_C_PO
designator J?
USB_C_PO  Power Only
footprint USB_C_PowerOnly_XKB_U262-061N-4BVC10
footprint USB_C_PO_XUNPU_TYPEC-253-BCP6
footprint USB_C_PO_SHOUHAN_DT6P-DIP
pins: A5 CC1, A9 VBUS, A12 GND, B5 CC2, B9 VBUS, B12 GND, S1 Shield

## USB_C_PO_TYPE-C 6P(073)
designator J?, comment TYPE-C 6P(073)
footprint USB_C_PO_TYPE-C 6P(073)
pins: 7 Shield, A5 CC1, A9 VBUS, A12 GND, B5 CC2, B9 VBUS, B12 GND

## VH3.96-2AW
designator J?
footprint VH3.96-2AW
pins: 1, 2

## VH3.96-3AW
designator J?
footprint VH3.96-3AW
pins: 1, 2

## VH3.96-4AW
designator J?
footprint VH3.96-4AW
pins: 1, 2, 3, 4

## WJ15EDGRC-3.81-2P
designator J?
3.81mm 排数:1 每排P数: 弯针
footprint CONN-TH_WJ15EDGRC-3.81-2P
pins: 1, 2

## WJ15EDGRC-3.81-3P
designator J?
3.81mm 排数:1 每排P数:3 弯针
footprint CONN-TH_WJ15EDGRC-3.81-3P
pins: 1, 2, 3

## WJ15EDGRC-3.81-6P
designator J?
3.81mm 排数:1 每排P数:6 弯针
footprint CONN-TH_WJ15EDGRC-3.81-6P
pins: 1, 2, 3, 4, 5, 6

## WJ500V-5.08-2P
designator J?
5.08mm 螺钉式接线端子
footprint CONN-TH_2P-P5.00_WJ500V-5.08-2P
pins: 1, 2

## X0225WT7W5
designator J?
DB25 立插针座
footprint D-SUB-TH_25P-X0225WT7W5
pins: 1, 2, 3, 4, 5, 6, 7, 8, 9, 10, 11, 12, 13, 14, 15, 16, 17, 18, 19, 20, 21, 22, 23, 24, 25, 26, 27

## X1011WVS-2x04-9TV01
designator J?  (value not drawn)
SHD 1.0mm 2X4P
footprint CONN-SMD_X1011WVS-2X04
pins: 1, 2, 3, 4, 5, 6, 7, 8, 9, 10

## X1011WVS-2x05-9TV01
designator J?  (value not drawn)
SHD 1.0mm 2X5P
footprint CONN-SMD_X1011WVS-2X05
pins: 1, 2, 3, 4, 5, 6, 7, 8, 9, 10, 11, 12

## X1011WVS-2x10-9TV01
designator J?
SHD 1.0mm 2X10P
footprint CONN-SMD_X1011WVS-2X10
pins: 1, 2, 3, 4, 5, 6, 7, 8, 9, 10, 11, 12, 13, 14, 15, 16, 17, 18, 19, 20, 21, 22

## X1511WRS-04HF-LPSW
designator J?
1.5mm 4P 卧贴
footprint CONN-SMD_X1511WRS-04HF-LPSW
pins: 1, 2, 3, 4

## X1511WVS-04HF-LPSW
designator J?
1.5mm 4P 立贴
footprint CONN-SMD_X1511WVS-04HF-LPSW (Footprint not found)
pins: 1, 2, 3, 4

## X1511WVS-06HF-LPSW
designator J?
1.5mm 6P 立贴
pins: 1, 2, 3, 4, 5, 6

## X1511WVS-09HF-LPSW
designator J?
1.5mm 9P 立贴
pins: 1, 2, 3, 4, 5, 6, 7, 8, 9

## XH2.54-2P
designator J?
母座 直插/直针 2.5mm 2Pin位 俗称： XH2.54带扣 HA2.54
footprint CONN-TH_2P-P2.50_HX25003-2A
pins: 1, 2

## XH2.54-3P
designator J?
母座 直插/直针 2.5mm 3Pin位 俗称： XH2.54带扣 HA2.54
footprint CONN-TH_3P-P2.50
pins: 1, 2, 3

## XH2.54-3P_SKIP
designator J?
母座 直插/直针 2.5mm 3Pin位 2pin去除
footprint CONN-TH_3P-P2.50_SKIP
footprint CONN-TH_3P-P2.50 _SKIP_H
pins: 1, 3

## XH2.54-4P
designator J?
母座 直插/直针 2.5mm 2Pin位 俗称： XH2.54带扣 HA2.54
footprint CONN-TH_4P-P2.50
pins: 1, 2, 3, 4

## XH2.54-4PLT
designator J?
2.54间距 4P立贴; BOM_Manufacturer: SHOU HAN(首韩); Contributor: lcsc; BOM_Supplier: LCSC; BOM_Supplier Part: C3008580; BOM_Manufacturer Part: 2.54-4PLT; link: https://atta.szlcsc.com/upload/public/pdf/source/20220427/B27E823FA990A8FF87420A79D8BE2F8E.pdf; BOM_JLCPCB Part Class: Extended Part; spicePre: U; spiceSymbolName: 2.54-4PLT
footprint CONN-SMD_4P-P2.50_SHOU_2.54-4PLT
pins: 1, 2, 3, 4, 5, 6

## XH2.54-4PWT
designator J?
2.54间距 4P 卧贴
footprint CONN-SMD_4P-P2.50_SHOUHAN_2.54-4PWT
pins: 1, 2, 3, 4, 5, 6

## XHB-3AW
designator CN?
BOM_Manufacturer: CAX; Contributor: LCSC; BOM_Supplier: LCSC; BOM_Supplier Part: C722900; BOM_Manufacturer Part: XHB-3AW; BOM_JLCPCB Part Class: Extended Part; spicePre: C; spiceSymbolName: XHB-3AW_C722900
footprint CONN-TH_XHB-3AW
pins: 1, 2, 3

## XT30PW-M
designator J?
XT30PW-M 电源连接器 30A Max; JLC_CODE: C431092
footprint XT30PW-M (电源连接器)
pins: 0 M, 0 M, 1, 2
text: +; XT30; -

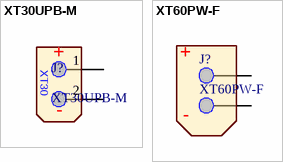
[diagram p13: symbols XT30UPB-M to XT60PW-F]

## XT30UPB-M
designator J?
XT30PW-M 电源连接器 30A Max 母头立式
footprint XT30UPB-M
pins: 1 VCC, 2 GND
text: +; XT30; -

## XT60PW-F
designator J?
pins: 1 VCC, 2 GND
text: +; -